# Altium footprint library mill-max-contacts.PcbLib: 1 footprints
Each footprint in its own frame and in the unit in brackets; x right, y up, seen from the top. Pads: shape width x height; smd on the part's side, far side on the other; paste and mask are expansions set on the pad; w line width, h text height; cw(c..) or ccw(c..) is an arc to the next point about the centre after c.
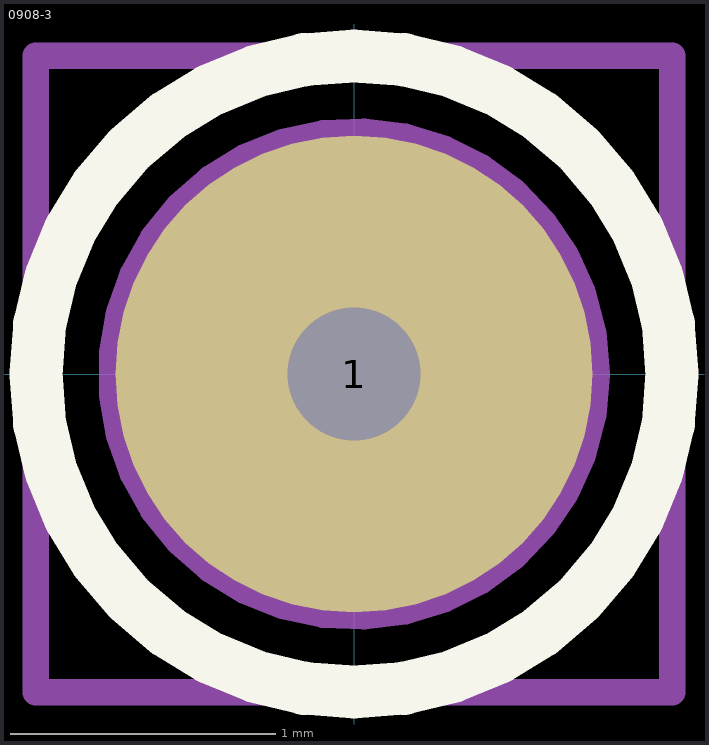
[diagram p0: the footprint, top view; thin cyan lines are the x and y axes]

## 0908-3 [mm] "Spring-Loaded Contact 8mm"
height 8
pads (1):
  round 1.8 / inner round 1.5 / far side round 1.8 hole 0.5: 1(0,0)
Top Overlay:
  circle w0.2: c0,0 r1.2
Mechanical 13:
  circle w0.1: c0,0 r0.915
  lines w0.1: -0.5,0 0.5,0 ; 0,-0.5 0,0.5
Mechanical 15:
  lines w0.1: -1.2,-1.2 1.2,-1.2 1.2,1.2 -1.2,1.2 -1.2,-1.2
  text ".Designator" at -1.665,-2.725 h0.5
3D body: height 8.02, standoff -1.74, extent -0.915,-0.914 0.918,0.914